# Altium footprint library led_new.PcbLib: 61 footprints (part 1 of 4)
Each footprint in its own frame and in the unit in brackets; x right, y up, seen from the top. Pads: shape width x height; smd on the part's side, far side on the other; paste and mask are expansions set on the pad; w line width, h text height; cw(c..) or ccw(c..) is an arc to the next point about the centre after c.
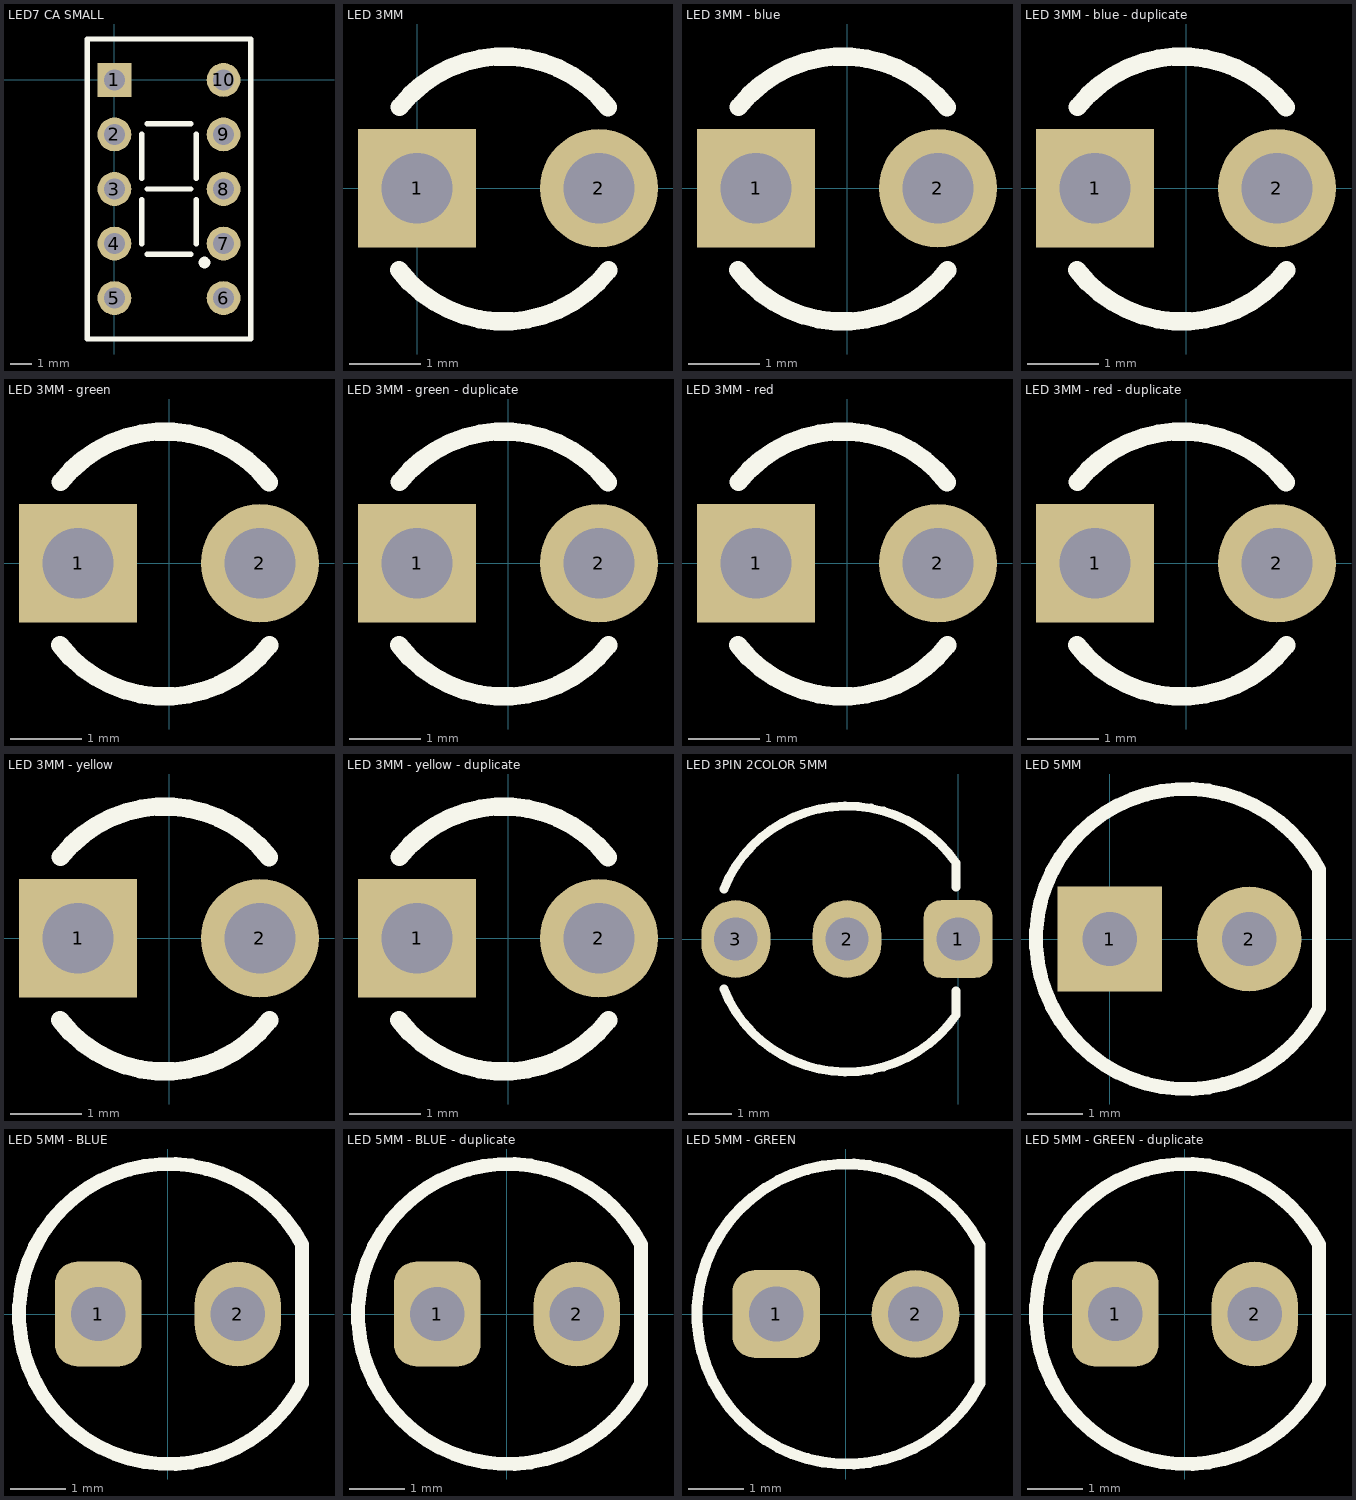
[diagram p0: the footprints below, top view; thin cyan lines are the x and y axes]

## LED7 CA SMALL [mil]
pads (10):
  rect 62x62 hole 38: 1(0,0)
  round 62 hole 38: 2(0,-100) 3(0,-200) 4(0,-300) 5(0,-400) 6(200,-400) 7(200,-300) 8(200,-200) 9(200,-100) 10(200,0)
Top Overlay:
  region: 167.07,-324.59 170.9,-326.17 172.36,-327.64 173.83,-329.1 175.41,-332.93 175.41,-334.01 175.82,-335 175.77,-335.14 175.78,-335.19 175.41,-336.04 175.41,-337.07 175.37,-337.11 175.37,-337.16 173.83,-340.9 171.87,-342.85 170.9,-343.83 167.07,-345.41 162.93,-345.41 159.1,-343.83 157.64,-342.36 156.17,-340.9 154.59,-337.07 154.59,-332.93 156.17,-329.1 157.64,-327.64 159.1,-326.17 162.93,-324.59
  lines w10: 50,-300 50,-220 ; 50,-180 50,-100 ; 60,-320 140,-320 ; 60,-200 140,-200 ; 60,-80 140,-80 ; 150,-300 150,-220 ; 150,-180 150,-100 ; -50,-475 -50,75 250,75 250,-475 -50,-475
3D body "User Library-AFF7.step": height 240.16, standoff -196.85, extent -50,-448.03 243.31,48.03

## LED 3MM [mil]
pads (2):
  rect 65x65 hole 39: 1(0,0)
  round 65 hole 39: 2(100,0)
Top Overlay:
  lines w10: -10.03,-45.02 ccw(c47.63,-0.43) 105.19,-45.15 ; -9.61,44.69 cw(c47.63,-0.43) 105,44.52
3D body "User Library-LED D3mm GREEN.STEP": height 207.04, standoff -107.93, extent -15.51,-64.9 114.41,64.57

## LED 3MM - blue [mil]
pads (2):
  rect 65x65 hole 39: 1(-50,0)
  round 65 hole 39: 2(50,0)
Top Overlay:
  lines w10: -60.03,-45.02 ccw(c-2.37,-0.43) 55.19,-45.15 ; -59.61,44.69 cw(c-2.37,-0.43) 55,44.52
3D body "User Library-LED_d3-BLU.STEP": height 195.87, standoff -98.43, extent -65.51,-65.07 61.01,64.74

## LED 3MM - blue - duplicate [mil]
pads (2):
  rect 65x65 hole 39: 1(-50,0)
  round 65 hole 39: 2(50,0)
Top Overlay:
  lines w10: -60.03,-45.02 ccw(c-2.37,-0.43) 55.19,-45.15 ; -59.61,44.69 cw(c-2.37,-0.43) 55,44.52
3D body "User Library-LED_d3-BLU.STEP": height 195.87, standoff -98.43, extent -65.51,-65.07 61.01,64.74

## LED 3MM - green [mil]
pads (2):
  rect 65x65 hole 39: 1(-50,0)
  round 65 hole 39: 2(50,0)
Top Overlay:
  lines w10: -60.03,-45.02 ccw(c-2.37,-0.43) 55.19,-45.15 ; -59.61,44.69 cw(c-2.37,-0.43) 55,44.52
3D body "User Library-LED D3mm GREEN.STEP": height 207.04, standoff -107.93, extent -65.51,-64.9 64.41,64.57

## LED 3MM - green - duplicate [mil]
pads (2):
  rect 65x65 hole 39: 1(-50,0)
  round 65 hole 39: 2(50,0)
Top Overlay:
  lines w10: -60.03,-45.02 ccw(c-2.37,-0.43) 55.19,-45.15 ; -59.61,44.69 cw(c-2.37,-0.43) 55,44.52
3D body "User Library-LED D3mm GREEN.STEP": height 207.04, standoff -107.93, extent -65.51,-64.9 64.41,64.57

## LED 3MM - red [mil]
pads (2):
  rect 65x65 hole 39: 1(-50,0)
  round 65 hole 39: 2(50,0)
Top Overlay:
  lines w10: -60.03,-45.02 ccw(c-2.37,-0.43) 55.19,-45.15 ; -59.61,44.69 cw(c-2.37,-0.43) 55,44.52
3D body "User Library-LED D3mm RED.STEP": height 207.04, standoff -107.93, extent -65.51,-64.9 64.41,64.57

## LED 3MM - red - duplicate [mil]
pads (2):
  rect 65x65 hole 39: 1(-50,0)
  round 65 hole 39: 2(50,0)
Top Overlay:
  lines w10: -60.03,-45.02 ccw(c-2.37,-0.43) 55.19,-45.15 ; -59.61,44.69 cw(c-2.37,-0.43) 55,44.52
3D body "User Library-LED D3mm RED.STEP": height 207.04, standoff -107.93, extent -65.51,-64.9 64.41,64.57

## LED 3MM - yellow [mil]
pads (2):
  rect 65x65 hole 39: 1(-50,0)
  round 65 hole 39: 2(50,0)
Top Overlay:
  lines w10: -60.03,-45.02 ccw(c-2.37,-0.43) 55.19,-45.15 ; -59.61,44.69 cw(c-2.37,-0.43) 55,44.52
3D body "SW3dPS-LEDd3Y.STEP": height 207.04, standoff -107.93, extent -65.51,-64.9 64.42,64.57

## LED 3MM - yellow - duplicate [mil]
pads (2):
  rect 65x65 hole 39: 1(-50,0)
  round 65 hole 39: 2(50,0)
Top Overlay:
  lines w10: -60.03,-45.02 ccw(c-2.37,-0.43) 55.19,-45.15 ; -59.61,44.69 cw(c-2.37,-0.43) 55,44.52
3D body "SW3dPS-LEDd3Y.STEP": height 207.04, standoff -107.93, extent -65.51,-64.9 64.42,64.57

## LED 3PIN 2COLOR 5MM [mil]
pads (3):
  rrect50% 62x70 hole 39: 1(0,0)
  oval 62x70 hole 39: 2(-100,0) 3(-200,0)
Top Overlay:
  lines w8: -210.87,-45.07 ccw(c-100,0) -1.95,-68.63 -1.95,-46.95 ; -210.87,45.07 cw(c-100,0) -1.95,68.63 -1.95,46.95
3D body "User Library-LED-5-mm.step": height 334.65, standoff -118.11, extent -218.11,-118.02 -1.58,118.03

## LED 5MM [mil]
pads (2):
  rect 75x75 / inner round 60 / far side rect 75x75 hole 39: 1(0,0)
  round 75 / inner round 60 / far side round 75 hole 39: 2(100,0)
Top Overlay:
  lines w10: 150,-50 cw(c54.68,0) 150,50 150,-50

## LED 5MM - BLUE [mil]
pads (2):
  rrect50% 62x75 hole 39: 1(-50,0)
  oval 62x75 hole 39: 2(50,0)
Top Overlay:
  lines w10: 96.08,-49.99 cw(c0.76,0.01) 96.08,50.01 96.08,-49.99
3D body "User Library-LED 5mm Blue.STEP": height 339.75, standoff -242.93, extent -117.31,-118.49 96.08,118.5

## LED 5MM - BLUE - duplicate [mil]
pads (2):
  rrect50% 62x75 hole 39: 1(-50,0)
  oval 62x75 hole 39: 2(50,0)
Top Overlay:
  lines w10: 96.08,-49.99 cw(c0.76,0.01) 96.08,50.01 96.08,-49.99
3D body "User Library-LED 5mm Blue.STEP": height 339.75, standoff -242.93, extent -117.31,-118.49 96.08,118.5

## LED 5MM - GREEN [mm]
pads (2):
  rrect50% 1.6x1.6 hole 1: 1(-1.27,0)
  round 1.6 hole 1: 2(1.27,0)
Top Overlay:
  lines w0.2: 2.44,-1.27 cw(c0.019,0) 2.44,1.27 2.44,-1.27
3D body "User Library-LED 5mm Green.STEP": height 8.63, standoff -6.17, extent -2.98,-3.01 2.44,3.01

## LED 5MM - GREEN - duplicate [mil]
pads (2):
  rrect50% 62x75 hole 39: 1(-50,0)
  oval 62x75 hole 39: 2(50,0)
Top Overlay:
  lines w10: 96.08,-49.99 cw(c0.76,0.01) 96.08,50.01 96.08,-49.99
3D body "User Library-LED 5mm Green.STEP": height 339.75, standoff -242.93, extent -117.31,-118.49 96.08,118.5